# Altium schematic symbol library Inductors (MHSI).SchLib: 1 symbol
Pins are listed as number, name and electrical type; pins without a type are passive.

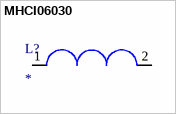
[diagram p0: symbol MHCI06030]

## MHCI06030
designator L?
Value: uH; Tolerance: ±20%; Saturation current: A; Temperature range: -55 to +125 ℃
footprint MHCI06030
pins: 1, 2